# Altium footprint library Vocore2Parts.PcbLib: 23 footprints (part 2 of 2)
Each footprint in its own frame and in the unit in brackets; x right, y up, seen from the top. Pads: shape width x height; smd on the part's side, far side on the other; paste and mask are expansions set on the pad; w line width, h text height; cw(c..) or ccw(c..) is an arc to the next point about the centre after c.
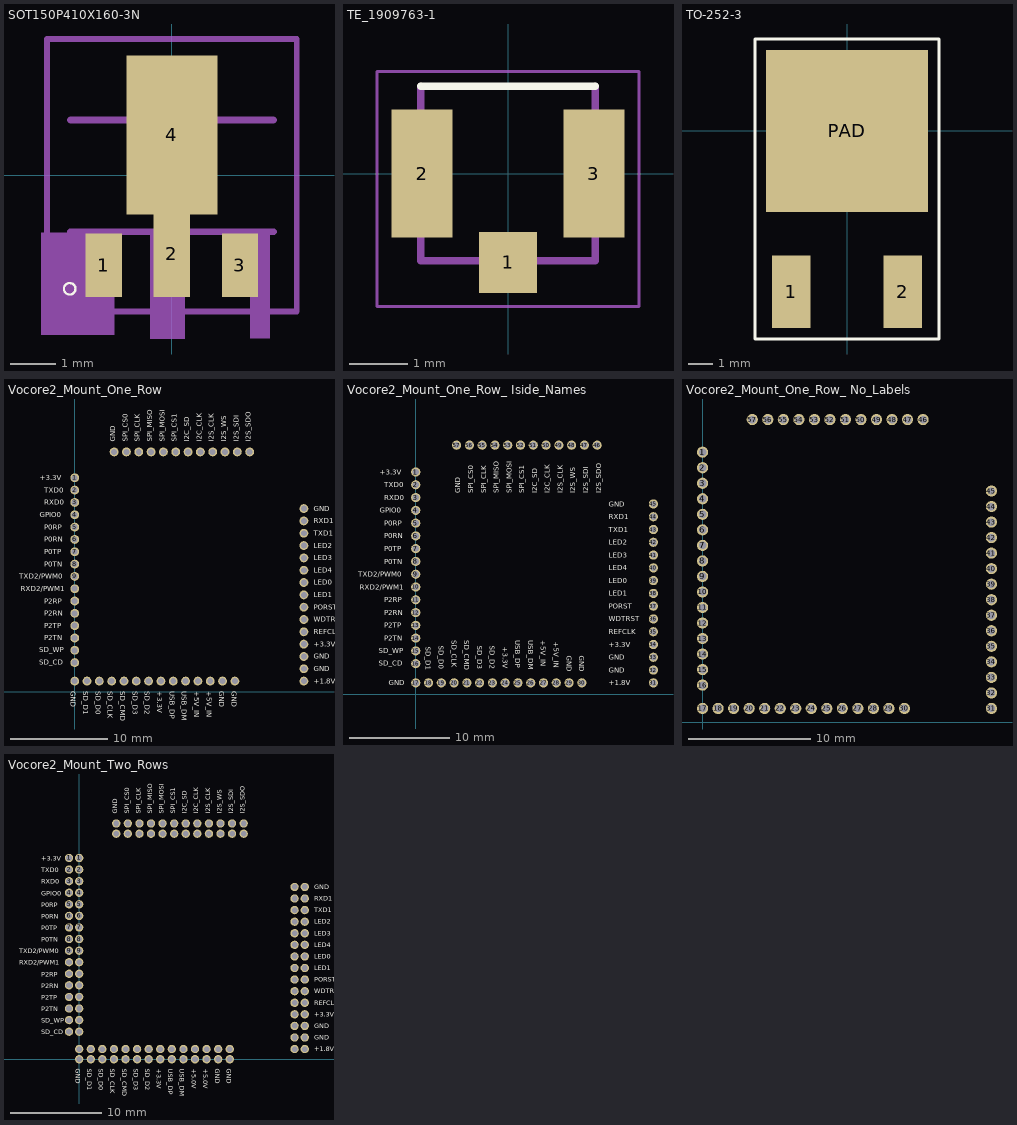
[diagram p1: the footprints below, top view; thin cyan lines are the x and y axes]

## SOT150P410X160-3N [mm]
pads (4):
  rect 0.8x1.4 smd: 1(-1.499,-1.981) 3(1.499,-1.981)
  rect 0.8x1.9 smd: 2(0,-1.727)
  rect 2x3.5 smd: 4(0,0.889)
Top Overlay:
  circle w0.051: c-2.25,-2.5 r0.127
Mechanical 1:
  region: -2.875,-1.27 -1.27,-1.27 -1.27,-3.51 -2.875,-3.51
  region: 2.161,-1.27 1.727,-1.27 1.727,-3.588 2.161,-3.588
  region: -0.478,-1.27 0.279,-1.27 0.279,-3.606 -0.478,-3.606
  region: -0.787,1.575 -0.356,2.007 0.356,2.007 0.787,1.575 0.787,1.295 -0.787,1.295
  lines w0.127: -2.75,-3 2.75,-3 2.75,3 -2.75,3 -2.75,-3
  lines w0.152: -2.235,-1.245 2.235,-1.245 ; -2.235,1.219 2.235,1.219
  lines w0.203: -0.787,1.295 0.787,1.295 0.787,1.575 0.356,2.007 -0.356,2.007 -0.787,1.575 -0.787,1.295

## TE_1909763-1 [mm]
pads (3):
  rect 1x1.05 smd: 1(0,-1.525)
  rect 1.05x2.2 smd: 2(-1.475,0) 3(1.475,0)
Top Overlay:
  lines w0.127: -1.5,1.5 1.5,1.5
Mechanical 1:
  lines w0.05: -2.25,-2.28 -2.25,1.75 2.25,1.75 2.25,-2.28 -2.25,-2.28
  lines w0.127: -1.5,1.5 -1.5,-1.5 1.5,-1.5 1.5,1.5

## TO-252-3 [mm]
pads (3):
  rect 1.6x3 smd: 1(-2.3,-6.65) 2(2.3,-6.65)
  rect 6.7x6.7 smd: PAD(0,0)
Top Overlay:
  lines w0.127: -3.8,-8.6 3.8,-8.6 3.8,3.8 -3.8,3.8 -3.8,-8.6

## Vocore2_Mount_One_Row [mil]
pads (57):
  round 36 hole 24: 1(0,869) 2(0,819) 3(0,769) 4(0,719) 5(0,669) 6(0,619) 7(0,569) 8(0,519) 9(0,469) 10(0,419) 11(0,369) 12(0,319) 13(0,269) 14(0,219) 15(0,169) 16(0,119) 17(0,44) 18(50,44) 19(100,44) 20(150,44) 21(200,44) 22(250,44) 23(300,44) 24(350,44) 25(400,44) 26(450,44) 27(500,44) 28(550,44) 29(600,44) 30(650,44) 31(930,44) 32(930,94) 33(930,144) 34(930,194) 35(930,244) 36(930,294) 37(930,344) 38(930,394) 39(930,444) 40(930,494) 41(930,544) 42(930,594) 43(930,644) 44(930,694) 45(930,744) 46(710,974) 47(660,974) 48(610,974) 49(560,974) 50(510,974) 51(460,974) 52(410,974) 53(360,974) 54(310,974) 55(260,974) 56(210,974) 57(160,974)
Top Overlay:
  text "+3.3V" at -140.99,858.8 h20.4
  text "TXD0" at -124,808.8 h20.4
  text "RXD0" at -124,758.8 h20.4
  text "GPIO0" at -140.99,708.8 h20.4
  text "P0RP" at -124,658.8 h20.4
  text "P0RN" at -124,608.8 h20.4
  text "P0TP" at -124,558.8 h20.4
  text "P0TN" at -124,508.8 h20.4
  text "TXD2/PWM0" at -225.97,458.8 h20.4
  text "RXD2/PWM1" at -219.17,408.8 h20.4
  text "P2RP" at -124,358.8 h20.4
  text "P2RN" at -124,308.8 h20.4
  text "P2TP" at -124,258.8 h20.4
  text "P2TN" at -124,208.8 h20.4
  text "SD_WP" at -144.39,160.5 h20.4
  text "SD_CD" at -144.39,110.5 h20.4
  text "GND" at -15,3 h20.4
  text "SD_D1" at 35,3 h20.4
  text "SD_D0" at 85,3 h20.4
  text "SD_CLK" at 135,3 h20.4
  text "SD_CMD" at 185,3 h20.4
  text "SD_D3" at 235,3 h20.4
  text "SD_D2" at 285,3 h20.4
  text "+3.3V" at 335,3 h20.4
  text "USB_DP" at 385,3 h20.4
  text "USB_DM" at 435,3 h20.4
  text "+5V_IN" at 485,3 h20.4
  text "+5V_IN" at 535,3 h20.4
  text "GND" at 587.5,3 h20.4
  text "GND" at 637.5,3 h20.4
  text "+1.8V" at 971,34 h20.4
  text "GND" at 971,84 h20.4
  text "GND" at 971,134 h20.4
  text "+3.3V" at 971,184 h20.4
  text "REFCLK" at 971,234 h20.4
  text "WDTRST" at 971,284 h20.4
  text "PORST" at 971,334 h20.4
  text "LED1" at 971,384 h20.4
  text "LED0" at 971,434 h20.4
  text "LED4" at 971,484 h20.4
  text "LED3" at 971,534 h20.4
  text "LED2" at 971,584 h20.4
  text "TXD1" at 971,634 h20.4
  text "RXD1" at 971,684 h20.4
  text "GND" at 971,734 h20.4
  text "I2S_SDO" at 715,1015 h20.4
  text "I2S_SDI" at 665,1015 h20.4
  text "I2S_WS" at 615,1015 h20.4
  text "I2S_CLK" at 565,1015 h20.4
  text "I2C_CLK" at 515,1015 h20.4
  text "I2C_SD" at 465,1015 h20.4
  text "SPI_CS1" at 415,1015 h20.4
  text "SPI_MOSI" at 365,1015 h20.4
  text "SPI_MISO" at 315,1015 h20.4
  text "SPI_CLK" at 265,1015 h20.4
  text "SPI_CS0" at 215,1015 h20.4
  text "GND" at 165,1015 h20.4

## Vocore2_Mount_One_Row_ Iside_Names [mil]
pads (57):
  round 36 hole 24: 1(0,869) 2(0,819) 3(0,769) 4(0,719) 5(0,669) 6(0,619) 7(0,569) 8(0,519) 9(0,469) 10(0,419) 11(0,369) 12(0,319) 13(0,269) 14(0,219) 15(0,169) 16(0,119) 17(0,44) 18(50,44) 19(100,44) 20(150,44) 21(200,44) 22(250,44) 23(300,44) 24(350,44) 25(400,44) 26(450,44) 27(500,44) 28(550,44) 29(600,44) 30(650,44) 31(930,44) 32(930,94) 33(930,144) 34(930,194) 35(930,244) 36(930,294) 37(930,344) 38(930,394) 39(930,444) 40(930,494) 41(930,544) 42(930,594) 43(930,644) 44(930,694) 45(930,744) 46(710,974) 47(660,974) 48(610,974) 49(560,974) 50(510,974) 51(460,974) 52(410,974) 53(360,974) 54(310,974) 55(260,974) 56(210,974) 57(160,974)
Top Overlay:
  text "GND" at -105,35 h20.4
  text "SD_CD" at -144.39,110.5 h20.4
  text "SD_WP" at -144.39,160.5 h20.4
  text "P2TN" at -124,208.8 h20.4
  text "P2TP" at -124,258.8 h20.4
  text "P2RN" at -124,308.8 h20.4
  text "P2RP" at -124,358.8 h20.4
  text "RXD2/PWM1" at -219.17,408.8 h20.4
  text "TXD2/PWM0" at -225.97,458.8 h20.4
  text "P0TN" at -124,508.8 h20.4
  text "P0TP" at -124,558.8 h20.4
  text "P0RN" at -124,608.8 h20.4
  text "P0RP" at -124,658.8 h20.4
  text "GPIO0" at -140.99,708.8 h20.4
  text "RXD0" at -124,758.8 h20.4
  text "TXD0" at -124,808.8 h20.4
  text "+3.3V" at -140.99,858.8 h20.4
  text "GND" at 175,785 h20.4
  text "SPI_CS0" at 225,785 h20.4
  text "SPI_CLK" at 275,785 h20.4
  text "SPI_MISO" at 325,785 h20.4
  text "SPI_MOSI" at 375,785 h20.4
  text "SPI_CS1" at 425,785 h20.4
  text "I2C_SD" at 475,785 h20.4
  text "I2C_CLK" at 525,785 h20.4
  text "I2S_CLK" at 575,785 h20.4
  text "I2S_WS" at 625,785 h20.4
  text "I2S_SDI" at 675,785 h20.4
  text "I2S_SDO" at 725,785 h20.4
  text "GND" at 756,734 h20.4
  text "RXD1" at 756,684 h20.4
  text "TXD1" at 756,634 h20.4
  text "LED2" at 756,584 h20.4
  text "LED3" at 756,534 h20.4
  text "LED4" at 756,484 h20.4
  text "LED0" at 756,434 h20.4
  text "LED1" at 756,384 h20.4
  text "PORST" at 756,334 h20.4
  text "WDTRST" at 756,284 h20.4
  text "REFCLK" at 756,234 h20.4
  text "+3.3V" at 756,184 h20.4
  text "GND" at 756,134 h20.4
  text "GND" at 756,84 h20.4
  text "+1.8V" at 756,34 h20.4
  text "GND" at 640,150 h20.4
  text "GND" at 590,150 h20.4
  text "+5V_IN" at 540,205 h20.4
  text "+5V_IN" at 490,210 h20.4
  text "USB_DM" at 440,210 h20.4
  text "USB_DP" at 390,210 h20.4
  text "+3.3V" at 340,185 h20.4
  text "SD_D2" at 290,190 h20.4
  text "SD_D3" at 240,190 h20.4
  text "SD_CMD" at 190,210 h20.4
  text "SD_CLK" at 140,210 h20.4
  text "SD_D0" at 90,190 h20.4
  text "SD_D1" at 40,185 h20.4

## Vocore2_Mount_One_Row_ No_Labels [mil]
pads (57):
  round 36 hole 24: 1(0,869) 2(0,819) 3(0,769) 4(0,719) 5(0,669) 6(0,619) 7(0,569) 8(0,519) 9(0,469) 10(0,419) 11(0,369) 12(0,319) 13(0,269) 14(0,219) 15(0,169) 16(0,119) 17(0,44) 18(50,44) 19(100,44) 20(150,44) 21(200,44) 22(250,44) 23(300,44) 24(350,44) 25(400,44) 26(450,44) 27(500,44) 28(550,44) 29(600,44) 30(650,44) 31(930,44) 32(930,94) 33(930,144) 34(930,194) 35(930,244) 36(930,294) 37(930,344) 38(930,394) 39(930,444) 40(930,494) 41(930,544) 42(930,594) 43(930,644) 44(930,694) 45(930,744) 46(710,974) 47(660,974) 48(610,974) 49(560,974) 50(510,974) 51(460,974) 52(410,974) 53(360,974) 54(310,974) 55(260,974) 56(210,974) 57(160,974)

## Vocore2_Mount_Two_Rows [mil]
pads (114):
  round 36 hole 24: 1(-44,869) 1(0,869) 2(-44,819) 2(0,819) 3(-44,769) 3(0,769) 4(-44,719) 4(0,719) 5(-44,669) 5(0,669) 6(-44,619) 6(0,619) 7(-44,569) 7(0,569) 8(-44,519) 8(0,519) 9(-44,469) 9(0,469) 10(-44,419) 10(0,419) 11(-44,369) 11(0,369) 12(-44,319) 12(0,319) 13(-44,269) 13(0,269) 14(-44,219) 14(0,219) 15(-44,169) 15(0,169) 16(-44,119) 16(0,119) 17(0,0) 17(0,44) 18(50,0) 18(50,44) 19(100,0) 19(100,44) 20(150,0) 20(150,44) 21(200,0) 21(200,44) 22(250,0) 22(250,44) 23(300,0) 23(300,44) 24(350,0) 24(350,44) 25(400,0) 25(400,44) 26(450,0) 26(450,44) 27(500,0) 27(500,44) 28(550,0) 28(550,44) 29(600,0) 29(600,44) 30(650,0) 30(650,44) 31(930,44) 31(974,44) 32(930,94) 32(974,94) 33(930,144) 33(974,144) 34(930,194) 34(974,194) 35(930,244) 35(974,244) 36(930,294) 36(974,294) 37(930,344) 37(974,344) 38(930,394) 38(974,394) 39(930,444) 39(974,444) 40(930,494) 40(974,494) 41(930,544) 41(974,544) 42(930,594) 42(974,594) 43(930,644) 43(974,644) 44(930,694) 44(974,694) 45(930,744) 45(974,744) 46(710,974) 46(710,1018) 47(660,974) 47(660,1018) 48(610,974) 48(610,1018) 49(560,974) 49(560,1018) 50(510,974) 50(510,1018) 51(460,974) 51(460,1018) 52(410,974) 52(410,1018) 53(360,974) 53(360,1018) 54(310,974) 54(310,1018) 55(260,974) 55(260,1018) 56(210,974) 56(210,1018) 57(160,974) 57(160,1018)
Top Overlay:
  text "+3.3V" at -163,857 h20.4
  text "TXD0" at -163,807 h20.4
  text "RXD0" at -163,757 h20.4
  text "GPIO0" at -163,707 h20.4
  text "P0RP" at -163,657 h20.4
  text "P0RN" at -163,607 h20.4
  text "P0TP" at -163,557 h20.4
  text "P0TN" at -163,507 h20.4
  text "TXD2/PWM0" at -260,457 h20.4
  text "RXD2/PWM1" at -260,407 h20.4
  text "P2RP" at -163,357 h20.4
  text "P2RN" at -163,307 h20.4
  text "P2TP" at -163,257 h20.4
  text "P2TN" at -163,207 h20.4
  text "SD_WP" at -163,157 h20.4
  text "SD_CD" at -163,107 h20.4
  text "GND" at -15,-41 h20.4
  text "SD_D1" at 35,-41 h20.4
  text "SD_D0" at 85,-41 h20.4
  text "SD_CLK" at 135,-41 h20.4
  text "SD_CMD" at 185,-41 h20.4
  text "SD_D3" at 235,-41 h20.4
  text "SD_D2" at 285,-41 h20.4
  text "+3.3V" at 335,-41 h20.4
  text "USB_DP" at 385,-41 h20.4
  text "USB_DM" at 435,-41 h20.4
  text "+5.0V" at 485,-41 h20.4
  text "+5.0V" at 535,-41 h20.4
  text "GND" at 587.5,-41 h20.4
  text "GND" at 637.5,-41 h20.4
  text "+1.8V" at 1015,34 h20.4
  text "GND" at 1015,84 h20.4
  text "GND" at 1015,134 h20.4
  text "+3.3V" at 1015,184 h20.4
  text "REFCLK" at 1015,234 h20.4
  text "WDTRST" at 1015,284 h20.4
  text "PORST" at 1015,334 h20.4
  text "LED1" at 1015,384 h20.4
  text "LED0" at 1015,434 h20.4
  text "LED4" at 1015,484 h20.4
  text "LED3" at 1015,534 h20.4
  text "LED2" at 1015,584 h20.4
  text "TXD1" at 1015,634 h20.4
  text "RXD1" at 1015,684 h20.4
  text "GND" at 1015,734 h20.4
  text "I2S_SDO" at 715,1059 h20.4
  text "I2S_SDI" at 665,1059 h20.4
  text "I2S_WS" at 615,1059 h20.4
  text "I2S_CLK" at 565,1059 h20.4
  text "I2C_CLK" at 515,1059 h20.4
  text "I2C_SD" at 465,1059 h20.4
  text "SPI_CS1" at 415,1059 h20.4
  text "SPI_MOSI" at 365,1059 h20.4
  text "SPI_MISO" at 315,1059 h20.4
  text "SPI_CLK" at 265,1059 h20.4
  text "SPI_CS0" at 215,1059 h20.4
  text "GND" at 165,1059 h20.4